# Altium schematic symbol library IR_Thermometer.SchLib: 1 symbol
Pins are listed as number, name and electrical type; pins without a type are passive.

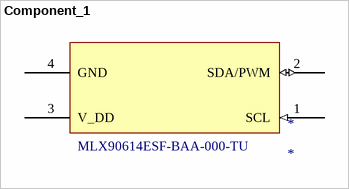
[diagram p0: symbol Component_1]

## Component_1
designator *  Supplier Part Number 1: MLX90614ESF-BAA-000-TU
Manufacturer: Melexis; Output Type: PWM; Resolution: 16b; Sensing Method: Infrared (IR); Max Output Current: 11mA; Operating Supply Voltage: 3.6V; Manufacturer Part Number: MLX90614ESF-BAA-000-TU; RoHS: Yes; Case/Package: TO-39-4; Min Operating Temperature: -40°C; Max Operating Temperature: 85°C; Package Quantity: 55; Packaging: Tray; Lead Free: Lead Free; Mount: Through Hole; ComponentLink1URL: https://www.distrelec.biz/Web/Downloads/r_/en/suMELEXIS_IR-tempsensor_EN.pdf?mime=application%2Fpdf&src-supplier=Distrelec; ComponentLink1Description: https://www.distrelec.biz/Web/Downloads/r_/en/suMELEXIS_IR-tempsensor_EN.pdf?mime=application%2Fpdf&src-supplier=Distrelec; Supplier 1: Digi-Key
footprint Model Name (Footprint not found)
pins: 1 SCL (in), 2 SDA/PWM (io), 3 V_DD (power), 4 GND (power)